# Altium footprint library CAPC320X160X90L50N.PcbLib: 1 footprints
Each footprint in its own frame and in the unit in brackets; x right, y up, seen from the top. Pads: shape width x height; smd on the part's side, far side on the other; paste and mask are expansions set on the pad; w line width, h text height; cw(c..) or ccw(c..) is an arc to the next point about the centre after c.
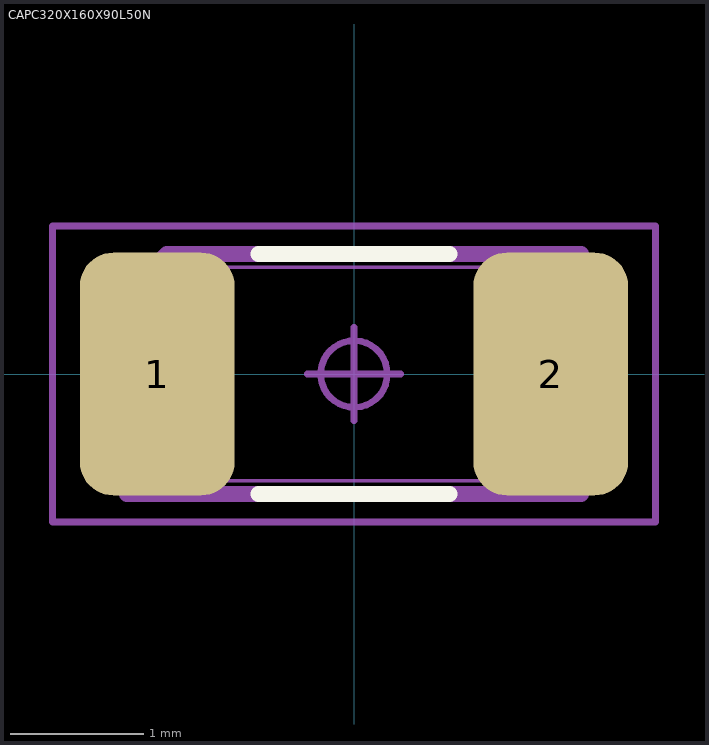
[diagram p0: the footprint, top view; thin cyan lines are the x and y axes]

## CAPC320X160X90L50N [mm] "Capacitor, Chip; 3.20 mm L X 1.60 mm W X 0.90 mm H body"
height 0.9
pads (2):
  rrect43% 1.16x1.82 smd: 1(-1.475,0) 2(1.475,0)
Top Overlay:
  lines w0.12: -0.715,-0.9 0.715,-0.9 ; -0.715,0.9 0.715,0.9
Mechanical 3:
  lines w0.12: -1.7,-0.9 -1.7,0.6 -1.4,0.9 1.7,0.9 1.7,-0.9 -1.7,-0.9
Mechanical 5:
  lines w0.025: -1.6,-0.8 -1.1,-0.8 -1.1,0.8 -1.6,0.8 ; -1.6,-0.8 -1.6,0.8 ; -1.6,-0.8 -1.6,0.8 ; -1.6,-0.8 1.6,-0.8 ; -1.6,0.8 1.6,0.8 ; 1.6,-0.8 1.6,0.8 ; 1.6,-0.8 1.1,-0.8 1.1,0.8 1.6,0.8 ; 1.6,-0.8 1.6,0.8
Mechanical 7:
  circle w0.05: c0,0 r0.25
  lines w0.05: -0.35,0 0.35,0 ; 0,-0.35 0,0.35 ; -2.26,-1.11 -2.26,1.11 2.26,1.11 2.26,-1.11 -2.26,-1.11
Mechanical 9:
  text "'.Designator'" at -5.58,-0.304 h1
3D body "CAPC320X160X90L50.STEP": height 0.9, standoff 0, extent -1.6,-0.8 1.6,0.8
3D body: height 1.04, standoff 0, extent -2.26,-1.11 2.26,1.11